# Altium footprint library PCB - LEADED - SOP - ROHM SOP-J11.PcbLib: 1 footprints
Each footprint in its own frame and in the unit in brackets; x right, y up, seen from the top. Pads: shape width x height; smd on the part's side, far side on the other; paste and mask are expansions set on the pad; w line width, h text height; cw(c..) or ccw(c..) is an arc to the next point about the centre after c.
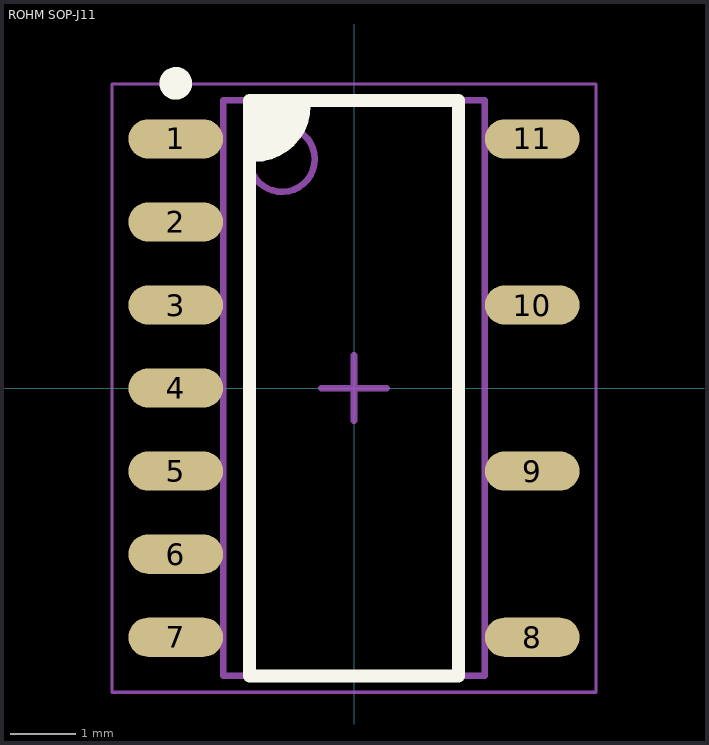
[diagram p0: the footprint, top view; thin cyan lines are the x and y axes]

## ROHM SOP-J11 [mm] "SOP, 14-Leads, Body 8.65x3.90mm, Pitch 1.27mm, IPC Medium Density"
height 1.65
pads (11):
  oval 1.45x0.6 smd: 1(-2.725,3.81) 2(-2.725,2.54) 3(-2.725,1.27) 4(-2.725,0) 5(-2.725,-1.27) 6(-2.725,-2.54) 7(-2.725,-3.81) 8(2.725,-3.81) 9(2.725,-1.27) 10(2.725,1.27) 11(2.725,3.81)
Top Overlay:
  circle w0.25: c-2.725,4.66 r0.125
  region: -1.6,4.4 -1.585,4.399 -1.558,4.387 -1.537,4.366 -1.525,4.339 -1.524,4.324 -1.524,3.556 -1.449,3.556 -1.302,3.585 -1.163,3.643 -1.038,3.726 -0.932,3.832 -0.849,3.957 -0.791,4.096 -0.762,4.243 -0.762,4.318
  lines w0.2: -1.524,3.556 ccw(c-1.524,4.318) -0.762,4.318 ; -1.6,-4.4 1.6,-4.4 1.6,4.4 -1.6,4.4 -1.6,-4.4
Mechanical 13:
  circle w0.1: c-1.1,3.5 r0.5
  lines w0.1: -2,-4.4 -2,4.4 2,4.4 2,-4.4 -2,-4.4
Mechanical 15:
  lines w0.05: -3.7,-4.65 -3.7,4.65 3.7,4.65 3.7,-4.65 -3.7,-4.65
Mechanical 2 (Mech9):
  lines w0.1: -0.5,0 0.5,0 ; 0,-0.5 0,0.5
3D body "ROHM SOP-J11.step": height 1.55, standoff 0, extent -3.015,-4.325 3.015,4.325